# Altium footprint library DiodesTHD.PcbLib: 51 footprints (part 4 of 4)
Each footprint in its own frame and in the unit in brackets; x right, y up, seen from the top. Pads: shape width x height; smd on the part's side, far side on the other; paste and mask are expansions set on the pad; w line width, h text height; cw(c..) or ccw(c..) is an arc to the next point about the centre after c.
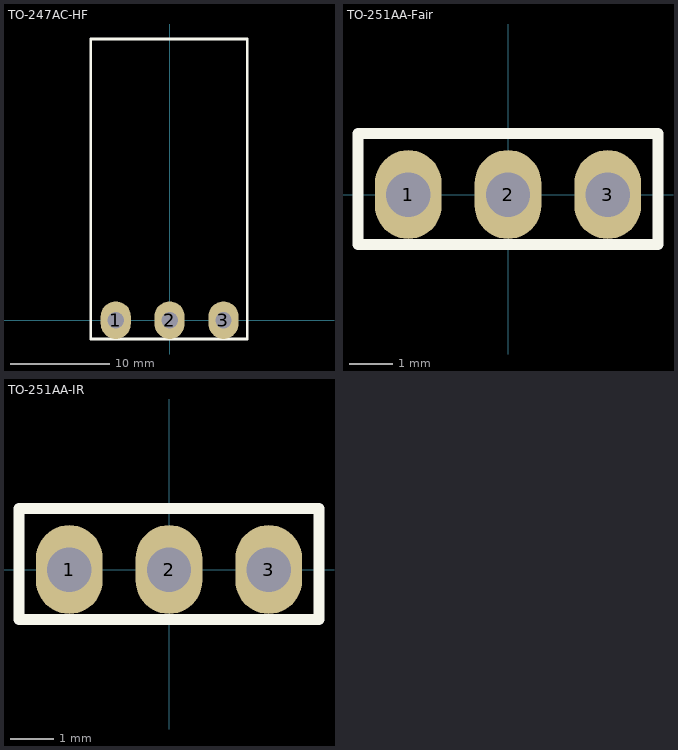
[diagram p3: the footprints below, top view; thin cyan lines are the x and y axes]

## TO-247AC-HF [mil]
pads (3):
  oval 120x150 hole 65: 1(-214.57,0) 2(0,0) 3(214.57,0)
Top Overlay:
  lines w10: -315,-75 310,-75 310,1120 -315,1120 -315,-75
3D body "TO-247AC-HF.stp": height 208.66, standoff -190.78, extent -312,-16.73 312.01,1116.54

## TO-251AA-Fair [mil]
pads (3):
  oval 60x80 hole 40: 1(-89.76,0) 2(0,0) 3(89.76,0)
Top Overlay:
  lines w10: -135,-45 135,-45 135,55 -135,55 -135,-45
3D body "TO-251AA-Fair.stp": height 401.89, standoff -241.81, extent -131.88,-41.33 131.9,51.19

## TO-251AA-IR [mil]
pads (3):
  oval 60x80 hole 40: 1(-89.76,0) 2(0,0) 3(89.76,0)
Top Overlay:
  lines w10: -135,-45 135,-45 135,55 -135,55 -135,-45
3D body "TO-251AA-IR.stp": height 401.89, standoff -241.81, extent -131.88,-41.33 131.9,51.19